# Altium schematic symbol library RF-SHIELD-V2.SchLib: 1 symbol
Pins are listed as number, name and electrical type; pins without a type are passive.

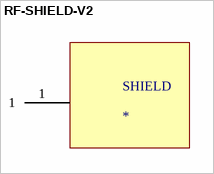
[diagram p0: symbol RF-SHIELD-V2]

## RF-SHIELD-V2
designator SHIELD
footprint RF-SHIELD-V2
footprint RF-SHIELD-V2
pins: 1